# Altium footprint library SparkFun-Connectors.PCBLIB: 344 footprints (part 14 of 22)
Each footprint in its own frame and in the unit in brackets; x right, y up, seen from the top. Pads: shape width x height; smd on the part's side, far side on the other; paste and mask are expansions set on the pad; w line width, h text height; cw(c..) or ccw(c..) is an arc to the next point about the centre after c.
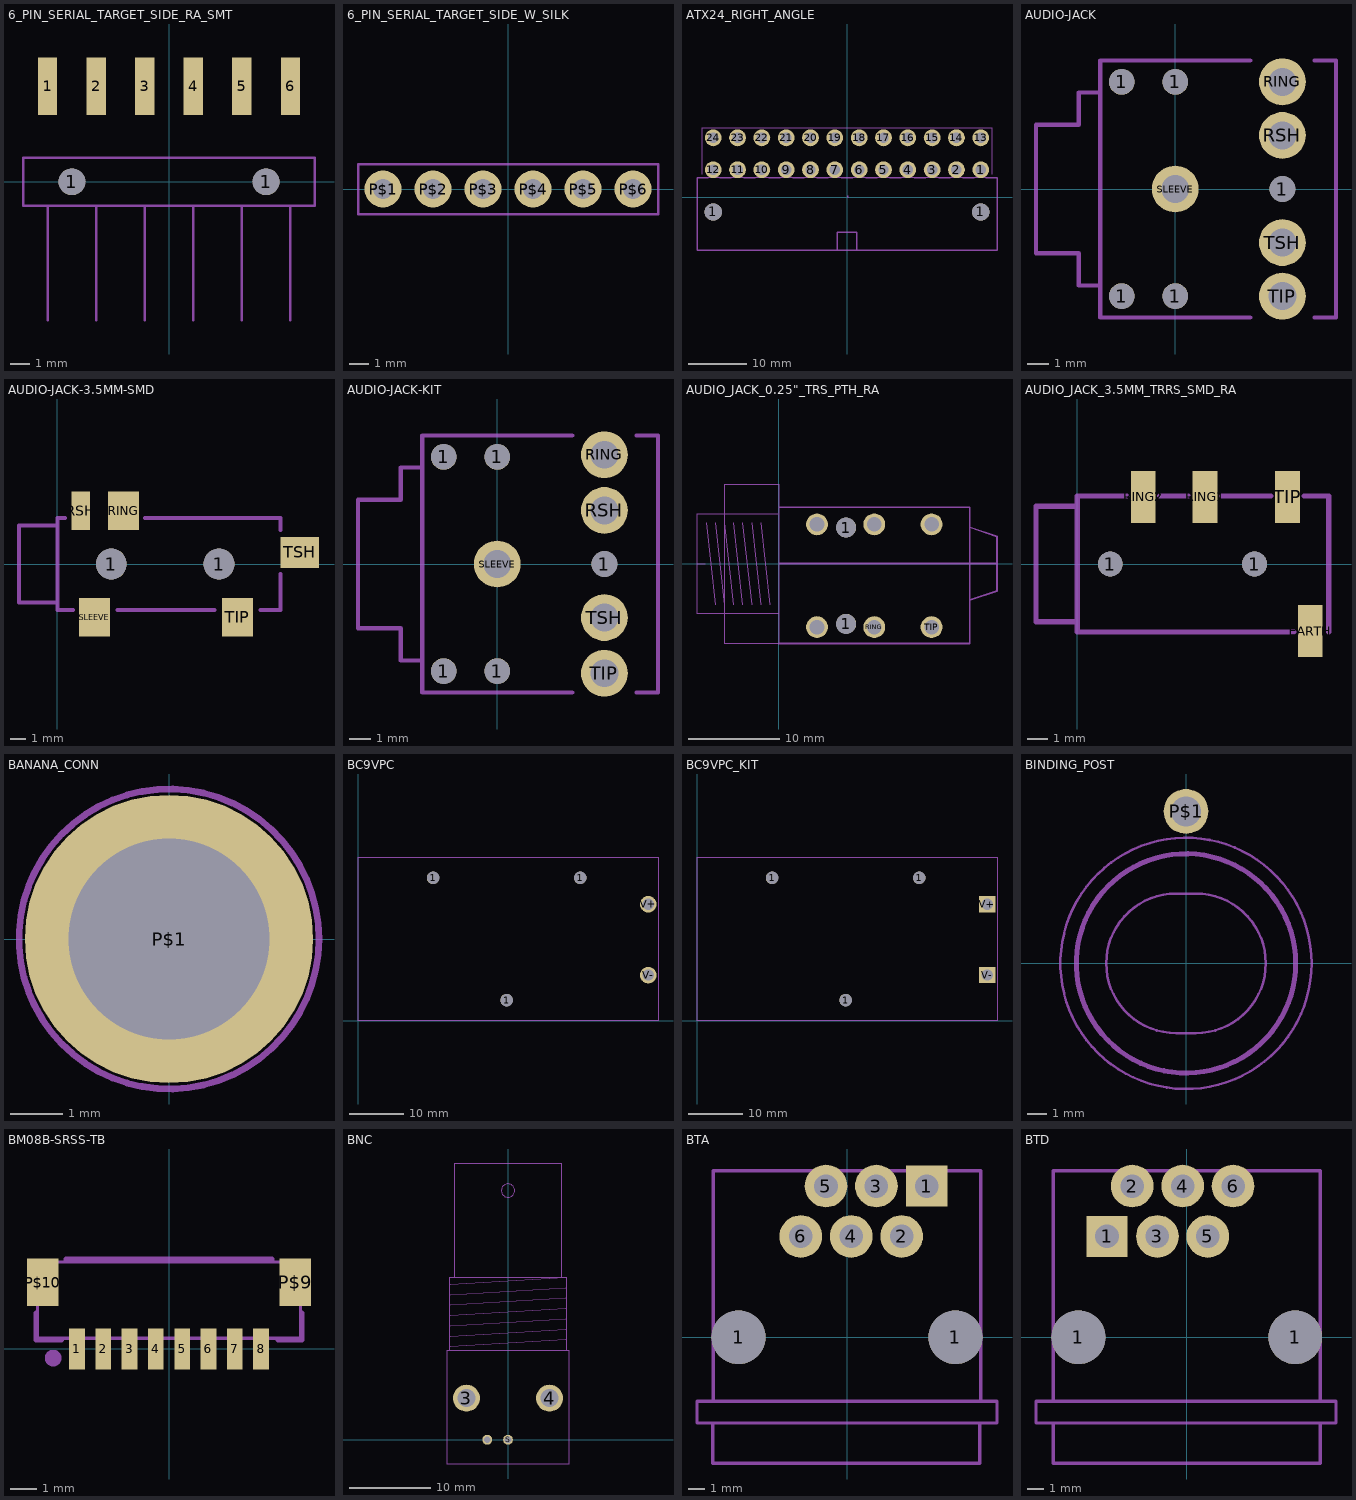
[diagram p13: the footprints below, top view; thin cyan lines are the x and y axes]

## 6_PIN_SERIAL_TARGET_SIDE_RA_SMT [mm]
pads (8):
  rect 1x3 smd: 1(-6.35,5) 2(-3.81,5) 3(-1.27,5) 4(1.27,5) 5(3.81,5) 6(6.35,5)
  round 1.4 hole 1.4 unplated: 1(-5.08,0) 1(5.08,0)
Mechanical 8:
  lines w0.127: -6.35,-7.25 -6.35,-1.25 ; -3.81,-7.25 -3.81,-1.25 ; -1.27,-7.25 -1.27,-1.25 ; 1.27,-7.25 1.27,-1.25 ; 3.81,-7.25 3.81,-1.25 ; 6.35,-7.25 6.35,-1.25 ; -6.35,-1.25 -7.62,-1.25 -7.62,1.25 7.62,1.25 7.62,-1.25 6.35,-1.25 ; -6.35,-1.25 -3.81,-1.25 ; -3.81,-1.25 -1.27,-1.25 ; -1.27,-1.25 1.27,-1.25 ; 1.27,-1.25 3.81,-1.25 ; 3.81,-1.25 6.35,-1.25

## 6_PIN_SERIAL_TARGET_SIDE_W_SILK [mil]
pads (6):
  round 74 / inner round 60 / far side round 74 hole 40: P$1(-250,0) P$2(-150,0) P$3(-50,0) P$4(50,0) P$5(150,0) P$6(250,0)
Mechanical 22:
  lines w5: -300,-50 300,-50 300,50 -300,50 -300,-50

## ATX24_RIGHT_ANGLE [mm]
pads (26):
  round 3 hole 3 unplated: 1(-23.1,-2.54) 1(23.1,-2.54)
  round 2.9 / inner round 1.524 / far side round 2.9 hole 1.8: 1(23.1,4.76) 2(18.9,4.76) 3(14.7,4.76) 4(10.5,4.76) 5(6.3,4.76) 6(2.1,4.76) 7(-2.1,4.76) 8(-6.3,4.76) 9(-10.5,4.76) 10(-14.7,4.76) 11(-18.9,4.76) 12(-23.1,4.76) 13(23.1,10.26) 14(18.9,10.26) 15(14.7,10.26) 16(10.5,10.26) 17(6.3,10.26) 18(2.1,10.26) 19(-2.1,10.26) 20(-6.3,10.26) 21(-10.5,10.26) 22(-14.7,10.26) 23(-18.9,10.26) 24(-23.1,10.26)
Mechanical 8:
  lines w0.127: -25,4 -25,12 25,12 25,4
  lines w0.203: -25.9,3.4 25.9,3.4
Mechanical 22:
  region: 0,0 0.254,0 0.254,0.254 0,0.254
  lines w0.254: -24,3.4 -25.9,3.4 -25.9,-9.14 25.9,-9.14 25.9,3.4 24,3.4 ; -22,3.4 -20,3.4 ; -17.8,3.4 -15.8,3.4 ; -13.5,3.4 -11.5,3.4 ; -9.4,3.4 -7.4,3.4 ; -5.2,3.4 -3.2,3.4 ; -1.7,-9 -1.7,-6 1.7,-6 1.7,-9 ; -1,3.4 1,3.4 ; 3.2,3.4 5.2,3.4 ; 7.4,3.4 9.4,3.4 ; 11.6,3.4 13.6,3.4 ; 15.8,3.4 17.8,3.4 ; 20,3.4 22,3.4

## AUDIO-JACK [mm]
pads (10):
  round 1.2 hole 1.2 unplated: 1(-2.5,-5) 1(-2.5,5) 1(0,-5) 1(0,5) 1(5,0)
  round 2.184 / inner round 1.524 / far side round 2.184 hole 1.3: RING(5,5) RSH(5,2.5) SLEEVE(0,0) TIP(5,-5) TSH(5,-2.5)
Mechanical 8:
  lines w0.203: -3.5,-6 -3.5,-4.5 -4.5,-4.5 -4.5,-3 -6.5,-3 -6.5,3 -4.5,3 -4.5,4.5 -3.5,4.5 -3.5,6
Mechanical 22:
  lines w0.203: 3.5,-6 -3.5,-6 -3.5,6 3.5,6 ; 6.5,-6 7.5,-6 7.5,6 6.5,6

## AUDIO-JACK-3.5MM-SMD [mm]
pads (7):
  round 2 hole 2 unplated: 1(3.5,0) 1(10.5,0)
  rect 2x2.5 smd: RING(4.3,3.45) SLEEVE(2.4,-3.45) TIP(11.7,-3.45)
  rect 1.2x2.5 smd: RSH(1.5,3.45)
  rect 2.5x2 smd: TSH(15.75,0.75)
Mechanical 8:
  lines w0.254: -0.152,2.5 -2.5,2.5 -2.5,-2.5 0,-2.5 ; 0.5,3 0,3 0,-2.5 ; 1,-3 0,-3 0,-2.5
Mechanical 22:
  lines w0.254: 3.9,-3 10.2,-3 ; 5.7,3 14.5,3 14.5,2.21 ; 13.2,-3 14.5,-3 14.5,-0.635

## AUDIO-JACK-KIT [mil]
pads (10):
  round 47.24 hole 47.24 unplated: 1(-98.43,-196.85) 1(-98.43,196.85) 1(0,-196.85) 1(0,196.85) 1(196.85,0)
  round 86 / inner round 60 / far side round 86 hole 51.18: RING(196.85,200.79) RSH(196.85,98.43) SLEEVE(0,0) TIP(196.85,-200.79) TSH(196.85,-98.43)
Top Solder:
  circle w0: c0,0 r26
  circle w0: c196.85,200.79 r26
  circle w0: c196.85,98.43 r26
  circle w0: c196.85,-98.43 r26
  circle w0: c196.85,-200.79 r26
Bottom Solder:
  circle w0: c0,0 r48
  circle w0: c196.85,200.79 r48
  circle w0: c196.85,-200.79 r48
  circle w0: c196.85,-98.43 r48
  circle w0: c196.85,98.43 r48
Mechanical 8:
  lines w8: -137.8,-236.22 -137.8,-177.17 -177.17,-177.17 -177.17,-118.11 -255.91,-118.11 -255.91,118.11 -177.17,118.11 -177.17,177.17 -137.8,177.17 -137.8,236.22
Mechanical 22:
  lines w8: 137.8,-236.22 -137.8,-236.22 -137.8,236.22 137.8,236.22 ; 255.91,-236.22 295.28,-236.22 295.28,236.22 255.91,236.22

## AUDIO_JACK_0.25"_TRS_PTH_RA [mm]
pads (8):
  round 2.2 hole 2.2 unplated: 1(7.4,-6.6) 1(7.4,4)
  round 2.4 / inner round 1.524 / far side round 2.4 hole 1.6: RING(10.5,-6.95) RING-NORM(10.5,4.35) SLEEVE(4.2,-6.95) SLEEVE-NORM(4.2,4.35) TIP(16.8,-6.95) TIP-NORM(16.8,4.35)
Mechanical 8:
  lines w0.127: -8.1,0.03 -9,0.03 ; -8,4.53 -7,-4.47 ; -7,4.53 -6,-4.47 ; -6,4.53 -5,-4.47 ; -5,4.53 -4,-4.47 ; -4,4.53 -3,-4.47 ; -3,4.53 -2,-4.47 ; -2,4.53 -1,-4.47 ; -9,0.03 -9,-5.47 0,-5.47 0,5.53 -9,5.53 -9,0.03 ; -6,-8.75 0,-8.75 0,8.75 -6,8.75 -6,-8.75
Mechanical 22:
  lines w0.127: 0,-8.77 0,6.23
  lines w0.203: 0,-8.77 21,-8.77 21,-3.97 ; 0,6.23 21,6.23 21,4.03 ; 0.095,0.03 24,0.03 ; 21,-3.97 21,4.03 ; 21,-3.97 24,-2.97 24,0.03 ; 21,4.03 24,3.03 24,0.03

## AUDIO_JACK_3.5MM_TRRS_SMD_RA [mil]
pads (6):
  round 47.24 hole 47.24 unplated: 1(62.99,0) 1(338.58,0)
  rect 47.24x98.43 smd: EARTH(444.88,-127.95) RING1(244.09,127.95) RING2(125.98,127.95) TIP(401.57,127.95)
Mechanical 8:
  lines w10: 19.69,-129.92 0,-129.92 0,-110.24 ; 19.69,129.92 0,129.92 0,110.24 ; 0,-110.24 0,110.24 ; 0,-110.24 -78.74,-110.24 -78.74,110.24 0,110.24
Mechanical 22:
  lines w10: 19.69,-129.92 413.39,-129.92 ; 19.69,129.92 94.49,129.92 ; 157.48,129.92 212.6,129.92 ; 275.59,129.92 370.08,129.92 ; 433.07,129.92 480.32,129.92 480.32,-129.92

## BANANA_CONN [mil]
pads (1):
  round 215 / inner round 60 / far side round 215 hole 150: P$1(0,0)
Mechanical 22:
  circle w5: c0,0 r111.8

## BC9VPC [mil]
pads (5):
  round 90 hole 90 unplated: 1(540,1030) 1(1070,150) 1(1600,1030)
  round 120 / inner round 60 / far side round 120 hole 80: V+(2090,840) V-(2090,330)
Mechanical 22:
  lines w5: 0,0 0,1180 2160,1180 2160,0 0,0

## BC9VPC_KIT [mil]
pads (5):
  round 90 hole 90 unplated: 1(540,1030) 1(1070,150) 1(1600,1030)
  rect 116.19x116.19 / inner rect 60x60 / far side rect 116.19x116.19 hole 80: V+(2090,840) V-(2090,330)
Bottom Solder:
  region: 2030,780 2030,900 2150,900 2150,780
  region: 2030,270 2030,390 2150,390 2150,270
Mechanical 22:
  lines w5: 0,0 0,1180 2160,1180 2160,0 0,0

## BINDING_POST [mil]
pads (1):
  round 88.59 / inner round 60 / far side round 88.59 hole 59.06: P$1(0,300)
Mechanical 1:
  lines w5: -157.48,0 cw(c-19.68,0.01) -19.69,137.8 ; -157.48,0 ccw(c-19.68,-0.01) -19.69,-137.8 ; -157.48,0 cw(c-19.68,0.01) -19.69,137.8 ; -157.48,0 ccw(c-19.68,-0.01) -19.69,-137.8 ; -19.69,-137.8 19.69,-137.8 ; -19.69,-137.8 19.69,-137.8 ; -19.69,137.8 19.69,137.8 ; -19.69,137.8 19.69,137.8 ; 19.69,-137.8 ccw(c19.68,-0.01) 157.48,0 ; 19.69,-137.8 ccw(c19.68,-0.01) 157.48,0 ; 19.69,137.8 cw(c19.68,0.01) 157.48,0 ; 19.69,137.8 cw(c19.68,0.01) 157.48,0
Mechanical 22:
  circle w10: c0,0 r216.54
Mechanical 30:
  circle w5: c0,0 r216.54
Mechanical 31:
  circle w5: c0,0 r248.06

## BM08B-SRSS-TB [mm]
pads (10):
  rect 0.6x1.55 smd: 1(-3.5,0) 2(-2.5,0) 3(-1.5,0) 4(-0.5,0) 5(0.5,0) 6(1.5,0) 7(2.5,0) 8(3.5,0)
  rect 1.2x1.8 smd: P$9(4.8,2.525) P$10(-4.8,2.525)
Mechanical 8:
  lines w0.127: -5,0.4 -5,3.3 5,3.3 5,0.4 -5,0.4
Mechanical 22:
  circle w0.406: c-4.4,-0.35 r0.112
  lines w0.203: -5.05,1.35 -5.05,0.35 -4.1,0.35 ; -3.9,3.4 3.9,3.4 ; 4.15,0.35 5.05,0.35 5.05,1.35

## BNC [mil]
pads (4):
  round 129.91 / inner round 60 / far side round 129.91 hole 86.61: 3(-200,200) 4(200,200)
  round 47.25 / inner round 60 / far side round 47.25 hole 31.5: GND(-100,0) S(0,0)
Mechanical 8:
  circle w5: c0,1200 r32.2
  lines w5: -280,428 -280,783 -260,783 ; -279,449 279,483 ; -279,499 279,533 ; -279,549 279,583 ; -279,599 279,633 ; -279,649 279,683 ; -279,699 279,733 ; -279,749 279,783 ; 280,428 280,783 279,783 ; -260,783 260,783 ; -260,783 -260,1328 260,1328 260,783 ; 260,783 279,783
Mechanical 22:
  lines w5: -295,-117 295,-117 295,428 -295,428 -295,-117

## BTA [mm]
pads (8):
  round 3.2 hole 3.2 unplated: 1(-6.45,0) 1(6.45,0)
  rect 2.459x2.459 / inner rect 1.524x1.524 / far side rect 2.459x2.459 hole 1.4: 1(4.75,9)
  round 2.54 / inner round 1.524 / far side round 2.54 hole 1.4: 2(3.25,6) 3(1.75,9) 4(0.25,6) 5(-1.25,9) 6(-2.75,6)
Mechanical 22:
  lines w0.203: -8,-5.1 -8,-7.5 7.9,-7.5 7.9,-5.1 ; -8,-5.1 -8.925,-5.1 -8.925,-3.8 -7.95,-3.8 ; -8,-5.1 7.9,-5.1 ; -7.95,-3.8 -7.95,9.9 7.95,9.9 7.95,-3.8 ; -7.95,-3.8 7.95,-3.8 ; 7.9,-5.1 8.925,-5.1 8.925,-3.8 7.95,-3.8

## BTD [mm]
pads (8):
  round 3.2 hole 3.2 unplated: 1(-6.45,0) 1(6.45,0)
  rect 2.459x2.459 / inner rect 1.524x1.524 / far side rect 2.459x2.459 hole 1.4: 1(-4.75,6)
  round 2.54 / inner round 1.524 / far side round 2.54 hole 1.4: 2(-3.25,9) 3(-1.75,6) 4(-0.25,9) 5(1.25,6) 6(2.75,9)
Mechanical 22:
  lines w0.203: -7.95,-5.1 -8.975,-5.1 -8.975,-3.8 -7.95,-3.8 ; -7.95,-5.1 7.95,-5.1 ; -7.95,-5.1 -7.95,-7.5 7.95,-7.5 7.95,-5.1 ; -7.95,-3.8 -7.95,9.9 7.95,9.9 7.95,-3.8 ; -7.95,-3.8 7.95,-3.8 ; 7.95,-5.1 8.875,-5.1 8.875,-3.8 7.95,-3.8